# Altium schematic symbol library CAP 47uF 6.3V - 1210.Schlib: 1 symbol
Pins are listed as number, name and electrical type; pins without a type are passive.

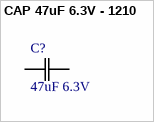
[diagram p0: symbol CAP 47uF 6.3V - 1210]

## CAP 47uF 6.3V - 1210
designator C?, comment 47uF 6.3V
CAP CER 47UF 6.3V X7R 1210
pins: 1 C1, 2 C2